# EAGLE library part LM239 (library LM239)
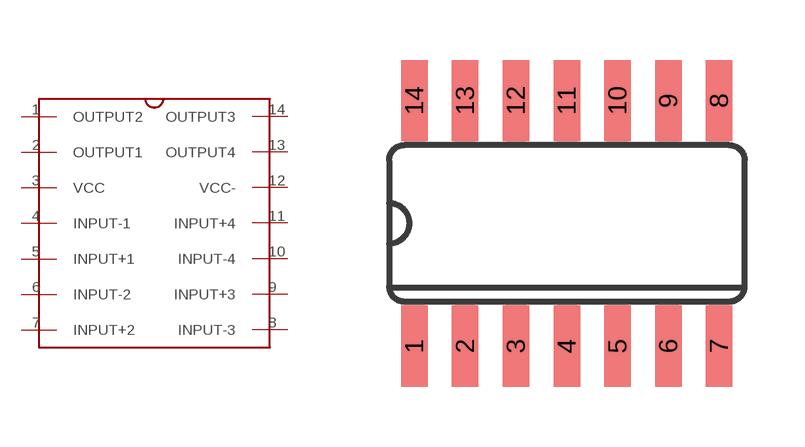
[diagram p0: symbol with the pads of LM239; footprint LM239]

Designator prefix -

## LM239  [LM239]
1  OUTPUT2
2  OUTPUT1
3  VCC
4  INPUT-1
5  INPUT+1
6  INPUT-2
7  INPUT+2
8  INPUT-3
9  INPUT+3
10  INPUT-4
11  INPUT+4
12  VCC-
13  OUTPUT4
14  OUTPUT3

## Footprint LM239 (pad centres in mm)
smd 0.66 x 2.032: 1 -3.7,-3.073; 2 -2.43,-3.073; 3 -1.16,-3.073; 4 0.11,-3.073; 5 1.38,-3.073; 6 2.65,-3.073; 7 3.92,-3.073; 8 3.92,3.073; 9 2.65,3.073; 10 1.38,3.073; 11 0.11,3.073; 12 -1.16,3.073; 13 -2.43,3.073; 14 -3.7,3.073